# Altium schematic symbol library SI5332A-D-GM3.SchLib: 2 symbols
Pins are listed as number, name and electrical type; pins without a type are passive.

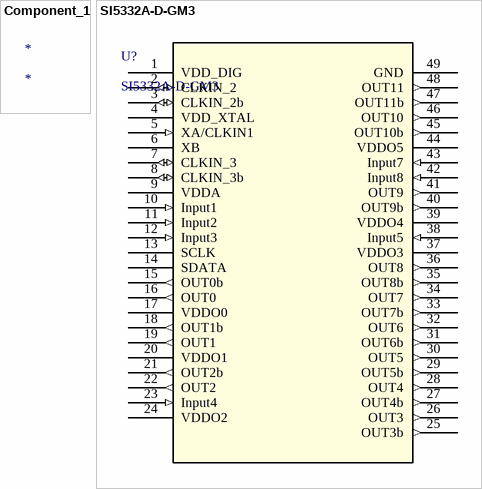
[diagram p0: symbols Component_1 to SI5332A-D-GM3]

## Component_1
designator *

## SI5332A-D-GM3
designator U?
No Description Available; Mfr_Name: Skyworks; Copyright: Copyright (C) 2023 Ultra Librarian. All rights reserved.; Manufacturer_Part_Number: SI5332A-D-GM3; RefDes: RefDes; Type: DEV
footprint QFN_32A-D-GM3_SKY
pins: 1 VDD_DIG (power), 2 CLKIN_2 (io), 3 CLKIN_2b (io), 4 VDD_XTAL (power), 5 XA/CLKIN1 (in), 6 XB, 7 CLKIN_3 (io), 8 CLKIN_3b (io), 9 VDDA (power), 10 Input1 (in), 11 Input2 (in), 12 Input3 (in), 13 SCLK, 14 SDATA, 15 OUT0b (out), 16 OUT0 (out), 17 VDDO0 (power), 18 OUT1b (out), 19 OUT1 (out), 20 VDDO1 (power), 21 OUT2b (out), 22 OUT2 (out), 23 Input4 (in), 24 VDDO2 (power), 25 OUT3b (out), 26 OUT3 (out), 27 OUT4b (out), 28 OUT4 (out), 29 OUT5b (out), 30 OUT5 (out), 31 OUT6b (out), 32 OUT6 (out), 33 OUT7b (out), 34 OUT7 (out), 35 OUT8b (out), 36 OUT8 (out), 37 VDDO3 (power), 38 Input5 (in), 39 VDDO4 (power), 40 OUT9b (out), 41 OUT9 (out), 42 Input8 (in), 43 Input7 (in), 44 VDDO5 (power), 45 OUT10b (out), 46 OUT10 (out), 47 OUT11b (out), 48 OUT11 (out), 49 GND (power)